# Altium footprint library DFN.PcbLib: 4 footprints
Each footprint in its own frame and in the unit in brackets; x right, y up, seen from the top. Pads: shape width x height; smd on the part's side, far side on the other; paste and mask are expansions set on the pad; w line width, h text height; cw(c..) or ccw(c..) is an arc to the next point about the centre after c.
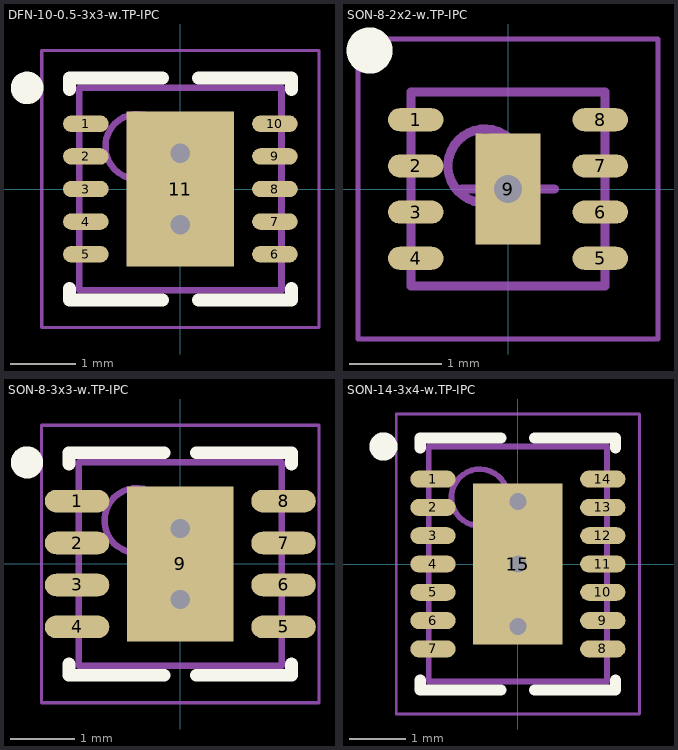
[diagram p0: the footprints below, top view; thin cyan lines are the x and y axes]

## DFN-10-0.5-3x3-w.TP-IPC [mm] "DFN, 10-Leads, Body 3.00x3.00mm, Pitch 0.50mm, Thermal Pad 2.38x1.65mm, IPC Medium Density"
height 0.8
pads (11):
  oval 0.7x0.25 smd mask+0.05: 1(-1.45,1) 2(-1.45,0.5) 3(-1.45,0) 4(-1.45,-0.5) 5(-1.45,-1) 6(1.45,-1) 7(1.45,-0.5) 8(1.45,0) 9(1.45,0.5) 10(1.45,1)
  rect 1.65x2.38 smd mask+0.05: 11(0,0)
via 0,-0.55 diameter 0.6 hole 0.3
via 0,0.55 diameter 0.6 hole 0.3
Top Overlay:
  circle w0.25: c-2.35,1.55 r0.125
  lines w0.2: -1.7,-1.525 -1.7,-1.7 -0.275,-1.7 ; -1.7,1.525 -1.7,1.7 -0.275,1.7 ; 0.275,-1.7 1.7,-1.7 1.7,-1.525 ; 0.275,1.7 1.7,1.7 1.7,1.525
Mechanical 13:
  circle w0.1: c-0.65,0.65 r0.5
  lines w0.1: -1.55,-1.55 1.55,-1.55 1.55,1.55 -1.55,1.55 -1.55,-1.55
Mechanical 15:
  lines w0.05: -2.125,-2.125 2.125,-2.125 2.125,2.125 -2.125,2.125 -2.125,-2.125
  lines w0.1: -0.5,0 0.5,0 ; 0,-0.5 0,0.5
3D body: height 0.8, standoff 0.1, extent -1.55,-1.55 1.55,1.55

## SON-8-2x2-w.TP-IPC [mm] "QFN, 8-Leads, Body 2.00x2.00mm, Pitch 0.50mm, Thermal Pad 1.20x0.70mm, IPC Medium Density"
height 0.8
pads (9):
  oval 0.6x0.25 smd: 1(-1,0.75) 2(-1,0.25) 3(-1,-0.25) 4(-1,-0.75) 5(1,-0.75) 6(1,-0.25) 7(1,0.25) 8(1,0.75)
  rect 0.7x1.2 smd: 9(0,0)
via 0,0 diameter 0.6 hole 0.3
Top Overlay:
  circle w0.25: c-1.5,1.5 r0.125
Mechanical 13:
  circle w0.1: c-0.25,0.25 r0.4
  lines w0.1: -1.05,-1.05 1.05,-1.05 1.05,1.05 -1.05,1.05 -1.05,-1.05
Mechanical 15:
  lines w0.05: -1.625,-1.625 1.625,-1.625 1.625,1.625 -1.625,1.625 -1.625,-1.625
  lines w0.1: -0.5,0 0.5,0 ; 0,-0.5 0,0.5
3D body: height 0.8, standoff 0.05, extent -1.05,-1.05 1.05,1.05

## SON-8-3x3-w.TP-IPC [mm] "QFN, 8-Leads, Body 3.00x3.00mm, Pitch 0.65mm, Thermal Pad 2.40x1.65mm, IPC Medium Density"
height 1
pads (9):
  oval 1x0.35 smd: 1(-1.6,0.975) 2(-1.6,0.325) 3(-1.6,-0.325) 4(-1.6,-0.975) 5(1.6,-0.975) 6(1.6,-0.325) 7(1.6,0.325) 8(1.6,0.975)
  rect 1.65x2.4 smd: 9(0,0)
via 0,0.55 diameter 0.6 hole 0.3
via 0,-0.55 diameter 0.6 hole 0.3
Top Overlay:
  circle w0.25: c-2.375,1.575 r0.125
  lines w0.2: -1.725,-1.55 -1.725,-1.725 -0.25,-1.725 ; -1.725,1.55 -1.725,1.725 -0.25,1.725 ; 0.25,-1.725 1.725,-1.725 1.725,-1.55 ; 0.25,1.725 1.725,1.725 1.725,1.55
Mechanical 13:
  circle w0.1: c-0.675,0.675 r0.5
  lines w0.1: -1.575,-1.575 -1.575,1.575 1.575,1.575 1.575,-1.575 -1.575,-1.575
Mechanical 15:
  lines w0.05: -2.15,-2.15 -2.15,2.15 2.15,2.15 2.15,-2.15 -2.15,-2.15
  lines w0.1: -0.5,0 0.5,0 ; 0,-0.5 0,0.5
3D body: height 1, standoff 0.05, extent -1.575,-1.575 1.575,1.575

## SON-14-3x4-w.TP-IPC [mm] "SON, 14-Leads, Body 4.00x3.00mm, Pitch 0.50mm, Thermal Pad 2.85x1.58mm, IPC Medium Density"
height 1
pads (15):
  oval 0.8x0.3 smd: 1(-1.5,1.5) 2(-1.5,1) 3(-1.5,0.5) 4(-1.5,0) 5(-1.5,-0.5) 6(-1.5,-1) 7(-1.5,-1.5) 8(1.5,-1.5) 9(1.5,-1) 10(1.5,-0.5) 11(1.5,0) 12(1.5,0.5) 13(1.5,1) 14(1.5,1.5)
  rect 1.58x2.85 smd: 15(0,0)
via 0,1.1 diameter 0.6 hole 0.3
via 0,0 diameter 0.6 hole 0.3
via 0,-1.1 diameter 0.6 hole 0.3
Top Overlay:
  circle w0.25: c-2.375,2.075 r0.125
  lines w0.2: -1.725,-2.05 -1.725,-2.225 -0.3,-2.225 ; -1.725,2.05 -1.725,2.225 -0.3,2.225 ; 0.3,-2.225 1.725,-2.225 1.725,-2.05 ; 0.3,2.225 1.725,2.225 1.725,2.05
Mechanical 13:
  circle w0.1: c-0.675,1.175 r0.5
  lines w0.1: -1.575,-2.075 -1.575,2.075 1.575,2.075 1.575,-2.075 -1.575,-2.075
Mechanical 15:
  lines w0.05: -2.15,-2.65 -2.15,2.65 2.15,2.65 2.15,-2.65 -2.15,-2.65
  lines w0.1: -0.5,0 0.5,0 ; 0,-0.5 0,0.5
3D body: height 1, standoff 0.05, extent -1.575,-2.075 1.575,2.075